# Altium schematic symbol library 503398-1892.SchLib: 1 symbol
Pins are listed as number, name and electrical type; pins without a type are passive.

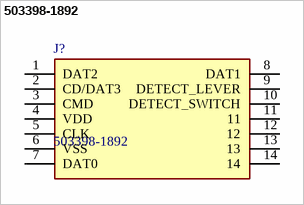
[diagram p0: symbol 503398-1892]

## 503398-1892
designator J?
MicroSD SMT Push-Push 1.28mm height MicroSD SMT Push-Push 1.28mm height; Manufacturer_Name: Molex; Manufacturer_Part_Number: 503398-1892; Mouser Part Number: 538-503398-1892; Mouser Price/Stock: https://www.mouser.co.uk/ProductDetail/Molex/503398-1892?qs=b0v8CoHHvSMxV%252BW12iKaSg%3D%3D; Arrow Part Number: *; Arrow Price/Stock: *; Datasheet Link: http://www.molex.com/webdocs/datasheets/pdf/en-us//5033981892_MEMORY_CARD_SOCKET.pdf; Geometry.Height: 1.28mm
footprint 5033981892
pins: 1 DAT2, 2 CD/DAT3, 3 CMD, 4 VDD, 5 CLK, 6 VSS, 7 DAT0, 8 DAT1, 9 DETECT_LEVER, 10 DETECT_SWITCH, 11, 12, 13, 14